# Altium footprint library Diodes-TVS-ESD-LEDs.PcbLib: 8 footprints
Each footprint in its own frame and in the unit in brackets; x right, y up, seen from the top. Pads: shape width x height; smd on the part's side, far side on the other; paste and mask are expansions set on the pad; w line width, h text height; cw(c..) or ccw(c..) is an arc to the next point about the centre after c.
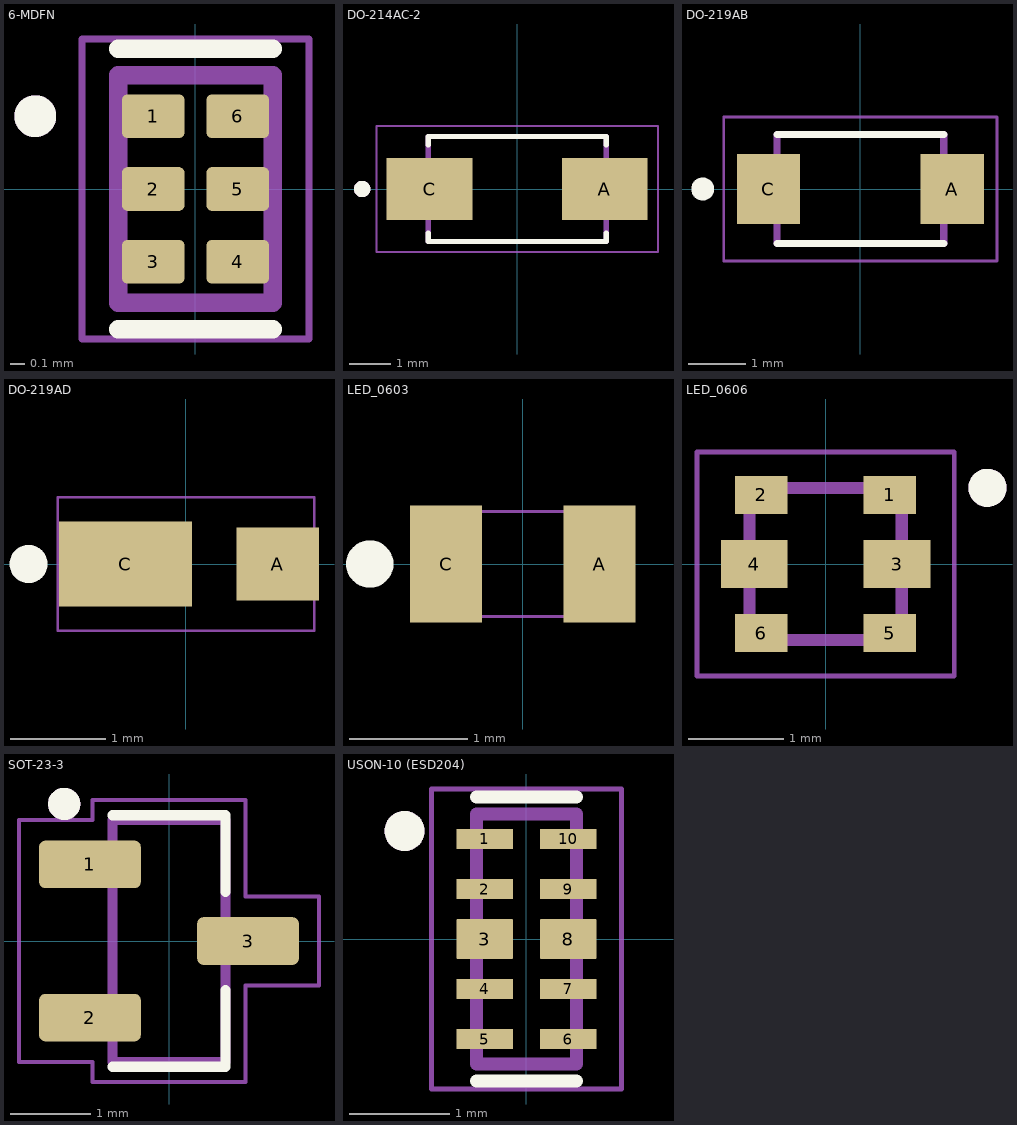
[diagram p0: the footprints below, top view; thin cyan lines are the x and y axes]

## 6-MDFN [mm]
pads (6):
  rrect25% 0.43x0.3 smd: 1(-0.29,0.5) 2(-0.29,0) 3(-0.29,-0.5) 4(0.29,-0.5) 5(0.29,0) 6(0.29,0.5)
Top Overlay:
  circle w0.2: c-1.1,0.5 r0.044
  lines w0.127: -0.53,-0.964 0.53,-0.964 ; -0.53,0.964 0.53,0.964
Mechanical 13:
  circle w0.2: c-1.1,0.5 r0.044
  lines w0.127: -0.53,-0.78 -0.53,0.78 0.53,0.78 0.53,-0.78 -0.53,-0.78
Mechanical 15:
  lines w0.05: -0.78,-1.03 -0.78,1.03 0.78,1.03 0.78,-1.03 -0.78,-1.03
3D body "step_temp.STEP": height 0.8, standoff 0, extent -0.5,-0.75 0.5,0.75

## DO-214AC-2 [mm]
pads (2):
  rect 2.09x1.5 smd: A(2.13,0) C(-2.13,0)
Top Overlay:
  circle w0.2: c-3.771,0 r0.1
  lines w0.127: -2.165,-1.07 -2.165,-1.28 2.165,-1.28 2.165,-1.07 ; -2.165,1.07 -2.165,1.28 2.165,1.28 2.165,1.07
Mechanical 13:
  circle w0.2: c-3.771,0 r0.1
  lines w0.127: -2.165,-1.28 2.165,-1.28 2.165,1.28 -2.165,1.28 -2.165,-1.28
Mechanical 15:
  lines w0.05: -3.425,-1.53 3.425,-1.53 3.425,1.53 -3.425,1.53 -3.425,-1.53
3D body "step_temp.STEP": height 2.5, standoff 0, extent -2.57,-1.28 2.57,1.28

## DO-219AB [mm]
pads (2):
  rect 1.1x1.22 smd: A(1.6,0) C(-1.6,0)
Top Overlay:
  circle w0.2: c-2.743,0 r0.1
  lines w0.127: -1.45,-0.95 1.45,-0.95 ; -1.45,0.95 1.45,0.95
Mechanical 13:
  lines w0.127: -1.45,-0.95 1.45,-0.95 1.45,0.95 -1.45,0.95 -1.45,-0.95
Mechanical 15:
  lines w0.05: -2.377,-1.25 -2.377,1.25 2.377,1.25 2.377,-1.25 -2.377,-1.25
3D body "SL03-GS08--3DModel-STEP-510211.STEP": height 1.08, standoff 0, extent -1.85,-0.9 1.85,0.9

## DO-219AD [mil]
pads (2):
  rect 34x30 smd paste-17 mask+4: A(38,0)
  rect 55x35 smd paste-27.5 mask+4: C(-25,0)
Top Overlay:
  circle w7.87: c-65,0 r3.94
Mechanical 13:
  lines w1: -53,-27.5 -53,27.5 53,27.5 53,-27.5 -53,-27.5 ; -53,-17.5 -53,17.5 -53,-17.5 ; 53,-15 53,15 53,-15
3D body "MSS1P4HM3_A_H.STEP": height 28.74, standoff 0, extent -49.21,-25.59 49.21,25.59

## LED_0603 [mil]
pads (2):
  rect 24x39 smd paste+0 mask+4: A(25.59,0) C(-25.59,0)
Top Overlay:
  circle w7.87: c-51,0 r3.94
Mechanical 13:
  lines w1: -33.5,-17.5 -33.5,17.5 33.5,17.5 33.5,-17.5 -33.5,-17.5
3D body "19-217_R6C-AL1M2VY_3T.STEP": height 19.68, standoff 0, extent -31.5,-15.75 31.5,15.75

## LED_0606 [mm]
pads (6):
  rect 0.55x0.4 smd: 1(0.675,0.725) 2(-0.675,0.725) 5(0.675,-0.725) 6(-0.675,-0.725)
  rect 0.7x0.5 smd: 3(0.75,0) 4(-0.75,0)
Top Overlay:
  circle w0.2: c1.7,0.8 r0.1
Mechanical 13:
  circle w0.2: c1.7,0.8 r0.1
  lines w0.127: -0.8,-0.8 -0.8,0.8 0.8,0.8 0.8,-0.8 -0.8,-0.8
Mechanical 15:
  lines w0.05: -1.35,-1.175 -1.35,1.175 1.35,1.175 1.35,-1.175 -1.35,-1.175
3D body "step_temp.STEP": height 0.5, standoff 0, extent -0.8,-0.8 0.8,0.8

## SOT-23-3 [mm]
pads (3):
  rrect25% 1.26x0.59 smd: 1(-0.98,0.95) 2(-0.98,-0.95) 3(0.98,0)
Top Overlay:
  circle w0.2: c-1.3,1.7 r0.1
  lines w0.127: -0.7,-1.559 0.7,-1.559 0.7,-0.609 ; -0.7,1.559 0.7,1.559 0.7,0.609
Mechanical 13:
  circle w0.2: c-1.3,1.7 r0.1
  lines w0.127: -0.7,-1.5 0.7,-1.5 0.7,1.5 -0.7,1.5 -0.7,-1.5
Mechanical 15:
  lines w0.05: -1.86,-1.5 -0.95,-1.5 -0.95,-1.75 0.95,-1.75 0.95,-0.55 1.86,-0.55 1.86,0.55 0.95,0.55 0.95,1.75 -0.95,1.75 -0.95,1.5 -1.86,1.5 -1.86,-1.5
3D body "SOT-23-3.STEP": height 1.12, standoff 0, extent -1.185,-1.46 1.185,1.46

## USON-10 (ESD204) [mm]
pads (10):
  rrect5% 0.565x0.2 smd mask+0: 1(-0.417,1) 2(-0.417,0.5) 4(-0.417,-0.5) 5(-0.417,-1) 6(0.417,-1) 7(0.417,-0.5) 9(0.417,0.5) 10(0.417,1)
  rrect5% 0.565x0.4 smd paste-1 mask+0: 3(-0.417,0) 8(0.417,0)
Top Overlay:
  circle w0.2: c-1.22,1.08 r0.1
  lines w0.127: -0.5,-1.42 0.5,-1.42 ; -0.5,1.42 0.5,1.42
Top Paste:
  region: 0.7,-0.18 0.135,-0.18 0.135,0.18 0.7,0.18
  region: -0.135,-0.18 -0.7,-0.18 -0.7,0.18 -0.135,0.18
Top Solder:
  region: 0.77,-0.27 0.065,-0.27 0.065,0.27 0.77,0.27
  region: -0.065,-0.27 -0.77,-0.27 -0.77,0.27 -0.065,0.27
  region: 0.77,-1.17 0.065,-1.17 0.065,-0.83 0.77,-0.83
  region: 0.77,-0.67 0.065,-0.67 0.065,-0.33 0.77,-0.33
  region: 0.77,0.33 0.065,0.33 0.065,0.67 0.77,0.67
  region: 0.77,0.83 0.065,0.83 0.065,1.17 0.77,1.17
  region: -0.065,-1.17 -0.77,-1.17 -0.77,-0.83 -0.065,-0.83
  region: -0.065,-0.67 -0.77,-0.67 -0.77,-0.33 -0.065,-0.33
  region: -0.065,0.33 -0.77,0.33 -0.77,0.67 -0.065,0.67
  region: -0.065,0.83 -0.77,0.83 -0.77,1.17 -0.065,1.17
Mechanical 13:
  circle w0.2: c-1.22,1.08 r0.1
  lines w0.127: -0.5,-1.25 -0.5,1.25 0.5,1.25 0.5,-1.25 -0.5,-1.25
Mechanical 15:
  lines w0.05: -0.95,-1.5 -0.95,1.5 0.95,1.5 0.95,-1.5 -0.95,-1.5
3D body "ESD204DQAR.STEP": height 0.55, standoff 0, extent -0.5,-1.25 0.5,1.25